# EAGLE library part ATMEGA809* (library atmel)
The ATmega808/809/1608/1609 microcontrollers are part of the megaAVR® 0-series, which uses the AVR® processor with hardware multiplier running at up to 20 MHz, and offers a wide range of Flash sizes up to 48 KB, up to 6 KB of SRAM, and 256 bytes of EEPROM in 28-, 32-, 40-, or 48-pin packages. The series uses the latest technologies from Microchip with a flexible and low-power architecture, including Event System and SleepWalking, accurate analog features, and advanced peripherals
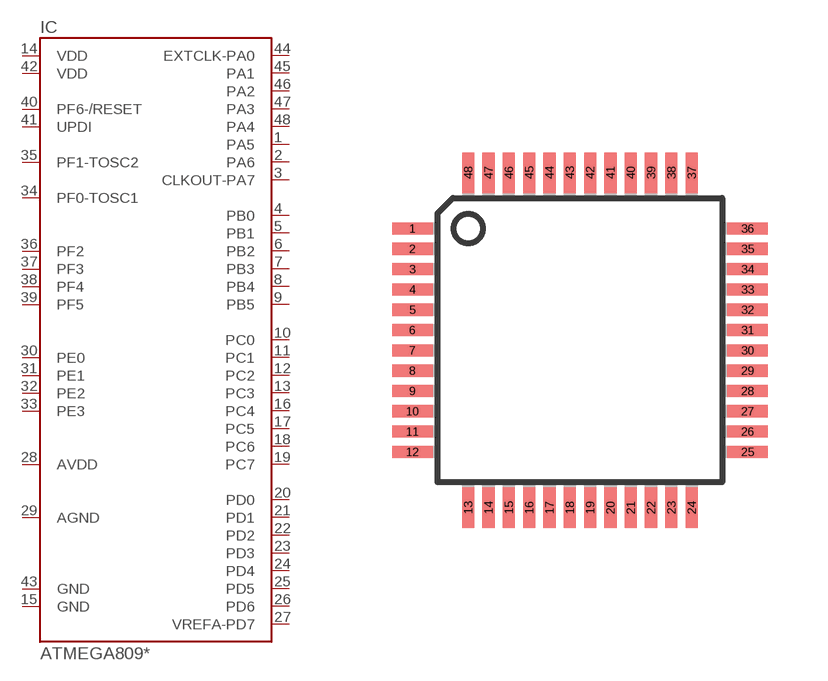
[diagram p43: symbol with the pads of TQFP48; footprint TQFP48]

Designator prefix IC

## ATMEGA809A  [TQFP48]
1  PA5
2  PA6
3  CLKOUT-PA7
4  PB0
5  PB1
6  PB2
7  PB3
8  PB4
9  PB5
10  PC0
11  PC1
12  PC2
13  PC3
14  VDD  pwr
15  GND  pwr
16  PC4
17  PC5
18  PC6
19  PC7
20  PD0
21  PD1
22  PD2
23  PD3
24  PD4
25  PD5
26  PD6
27  VREFA-PD7
28  AVDD  pwr
29  AGND  pwr
30  PE0
31  PE1
32  PE2
33  PE3
34  PF0-TOSC1
35  PF1-TOSC2
36  PF2
37  PF3
38  PF4
39  PF5
40  PF6-/RESET
41  UPDI
42  VDD  pwr
43  GND  pwr
44  EXTCLK-PA0
45  PA1
46  PA2
47  PA3
48  PA4

## Footprint TQFP48 (pad centres in mm)
Thin Plasic Quad Flat Package
smd 1.016 x 0.305: 1 -4.191,2.794; 2 -4.191,2.286; 3 -4.191,1.778; 4 -4.191,1.27; 5 -4.191,0.762; 6 -4.191,0.254; 7 -4.191,-0.254; 8 -4.191,-0.762; 9 -4.191,-1.27; 10 -4.191,-1.778; 11 -4.191,-2.286; 12 -4.191,-2.794; 25 4.191,-2.794; 26 4.191,-2.286; 27 4.191,-1.778; 28 4.191,-1.27; 29 4.191,-0.762; 30 4.191,-0.254; 31 4.191,0.254; 32 4.191,0.762; 33 4.191,1.27; 34 4.191,1.778; 35 4.191,2.286; 36 4.191,2.794
smd 0.305 x 1.016: 13 -2.794,-4.191; 14 -2.286,-4.191; 15 -1.778,-4.191; 16 -1.27,-4.191; 17 -0.762,-4.191; 18 -0.254,-4.191; 19 0.254,-4.191; 20 0.762,-4.191; 21 1.27,-4.191; 22 1.778,-4.191; 23 2.286,-4.191; 24 2.794,-4.191; 37 2.794,4.191; 38 2.286,4.191; 39 1.778,4.191; 40 1.27,4.191; 41 0.762,4.191; 42 0.254,4.191; 43 -0.254,4.191; 44 -0.762,4.191; 45 -1.27,4.191; 46 -1.778,4.191; 47 -2.286,4.191; 48 -2.794,4.191